# Altium schematic symbol library TPS51206DSQR.SchLib: 1 symbol
Pins are listed as number, name and electrical type; pins without a type are passive.

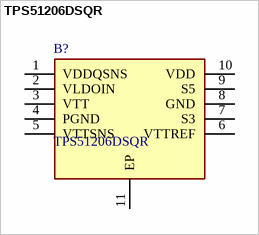
[diagram p0: symbol TPS51206DSQR]

## TPS51206DSQR
designator B?
2A Peak Sink/Source DDR Termination Regulator with VTTREF Buffered Reference for DDR2/3/3L/4; Manufacturer_Name: Texas Instruments; Geometry.Height: 0.8mm; Manufacturer_Part_Number: TPS51206DSQR; Mouser Part Number: 595-TPS51206DSQR; Mouser Price/Stock: https://www.mouser.co.uk/ProductDetail/Texas-Instruments/TPS51206DSQR?qs=%252BG2H6gVb6ixLbD%2FQxTGyiQ%3D%3D; Arrow Part Number: TPS51206DSQR; Arrow Price/Stock: https://www.arrow.com/en/products/tps51206dsqr/texas-instruments?region=nac; Datasheet Link: http://www.ti.com/lit/ds/symlink/tps51206.pdf
footprint SON40P200X200X80-11N
pins: 1 VDDQSNS, 2 VLDOIN, 3 VTT, 4 PGND, 5 VTTSNS, 6 VTTREF, 7 S3, 8 GND, 9 S5, 10 VDD, 11 EP